# Altium schematic symbol library CDCM61002.SchLib: 1 symbol
Pins are listed as number, name and electrical type; pins without a type are passive.

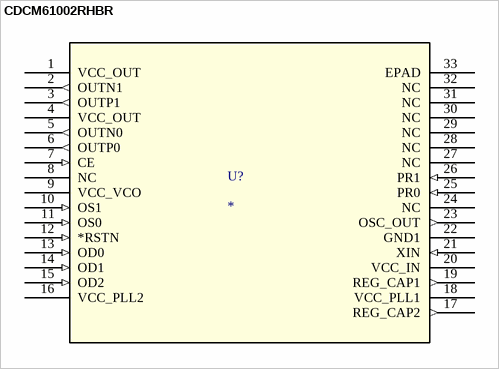
[diagram p0: symbol CDCM61002RHBR]

## CDCM61002RHBR
designator U?
1:2 Ultra Low Jitter Crystal-In Clock Generator; Manufacturer: Texas Instruments; GENERIC_PART_NUMBER: CDCM61002; INDUSTRY_STD_PKG_TYPE: QFN; FAMILY_NAME: INTERNAL VCO OUTPUT; PIN_COUNT: 32; PACKAGE_DESIGNATOR: RHB; Datasheet_URL: http://www.ti.com/lit/gpn/CDCM61002; Copyright: Copyright (C) 2018 Accelerated Designs. All rights reserved; RefDes: RefDes; Type: DEV; ComponentLink1Description: Product Page; ComponentLink1URL: https://www.ti.com/product/CDCM61002
footprint RHB32_3P45X3P45
pins: 1 VCC_OUT (power), 2 OUTN1 (out), 3 OUTP1 (out), 4 VCC_OUT (power), 5 OUTN0 (out), 6 OUTP0 (out), 7 CE (in), 8 NC, 9 VCC_VCO (power), 10 OS1 (in), 11 OS0 (in), 12 *RSTN (in), 13 OD0 (in), 14 OD1 (in), 15 OD2 (in), 16 VCC_PLL2 (power), 17 REG_CAP2 (out), 18 VCC_PLL1 (power), 19 REG_CAP1 (out), 20 VCC_IN (power), 21 XIN (in), 22 GND1 (power), 23 OSC_OUT (out), 24 NC, 25 PR0 (in), 26 PR1 (in), 27 NC, 28 NC, 29 NC, 30 NC, 31 NC, 32 NC, 33 EPAD (power)